# EAGLE library part FLEXCABLE-SFW15R-1STE1LF (library RPi-Parts)
Conn FFC/FPC Connector SKT 15 POS 1mm Solder RA SMD Embossed T/R
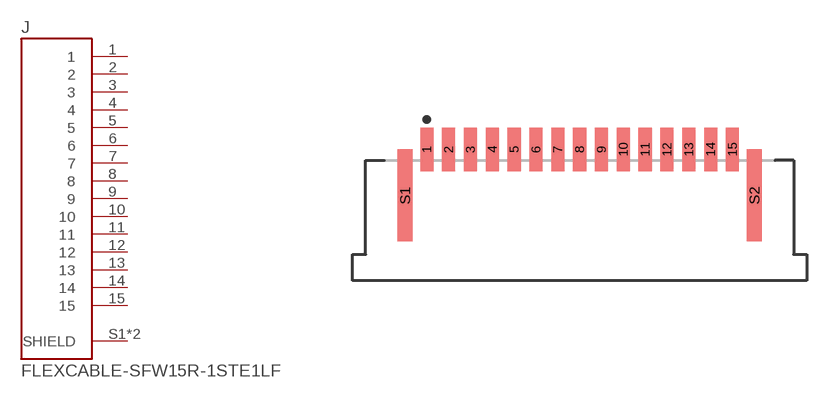
[diagram p3: symbol with the pads of AMPHENOL_SFW15R-1STE1LF; footprint AMPHENOL_SFW15R-1STE1LF]

Designator prefix J

## FLEXCABLE-SFW15R-1STE1LF (DESCRIPTION: 15 Position FFC, FPC Connector Contacts, Bottom 0.039 _1.00mm_ Surface Mount, Right Angle; DIGI-KEY_PART_NUMBER: 609-1905-1-ND; DIGI-KEY_PURCHASE_URL: https://www.digikey.com/product-detail/en/amphenol-icc-fci/SFW15R-1STE1LF/609-1905-1-ND/1003188?utm_source=snapeda&utm_medium=aggregator&utm_campaign=symbol; MF: Amphenol ICC; MP: SFW15R-1STE1LF; PACKAGE: None)  [AMPHENOL_SFW15R-1STE1LF]
1  1  pas
2  2  pas
3  3  pas
4  4  pas
5  5  pas
6  6  pas
7  7  pas
8  8  pas
9  9  pas
10  10  pas
11  11  pas
12  12  pas
13  13  pas
14  14  pas
15  15  pas
S1  SHIELD  pas
S2  SHIELD  pas

## Footprint AMPHENOL_SFW15R-1STE1LF (pad centres in mm)
smd 0.6 x 2: 1 -7,0; 2 -6,0; 3 -5,0; 4 -4,0; 5 -3,0; 6 -2,0; 7 -1,0; 8 0,0; 9 1,0; 10 2,0; 11 3,0; 12 4,0; 13 5,0; 14 6,0; 15 7,0
smd 0.7 x 4.2: S1 -8,-2.1; S2 8,-2.1